# Altium footprint library Header_Harwin_M50-3530242_2POS.PcbLib: 1 footprints
Each footprint in its own frame and in the unit in brackets; x right, y up, seen from the top. Pads: shape width x height; smd on the part's side, far side on the other; paste and mask are expansions set on the pad; w line width, h text height; cw(c..) or ccw(c..) is an arc to the next point about the centre after c.
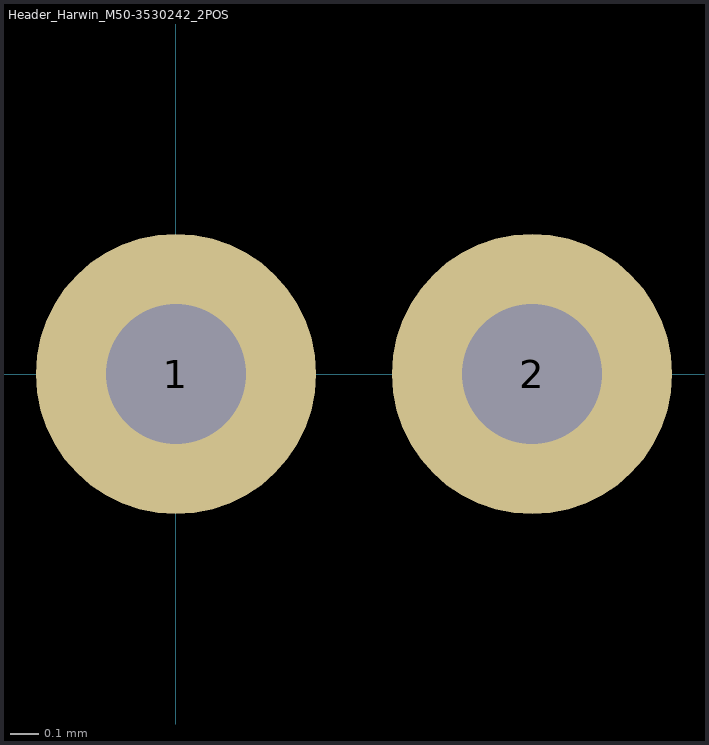
[diagram p0: the footprint, top view; thin cyan lines are the x and y axes]

## Header_Harwin_M50-3530242_2POS [mm] "Headers & Wire Housings 2 WAY SIL VERT PC TAIL P/HDR"
pads (2):
  round 1 hole 0.5: 1(0,0) 2(1.27,0)